# Altium schematic symbol library TP4056.SchLib: 1 symbol
Pins are listed as number, name and electrical type; pins without a type are passive.

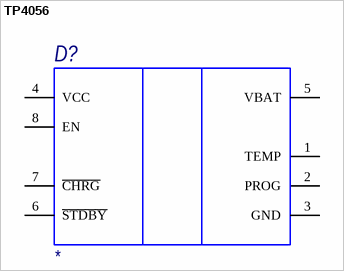
[diagram p0: symbol TP4056]

## TP4056
designator D?
Value: *
pins: 0 EPAD, 1 TEMP, 2 PROG, 3 GND, 4 VCC, 5 VBAT, 6 ~{STDBY}, 7 ~{CHRG}, 8 EN